# Altium footprint library KEYSTONE_4952.PcbLib: 1 footprints
Each footprint in its own frame and in the unit in brackets; x right, y up, seen from the top. Pads: shape width x height; smd on the part's side, far side on the other; paste and mask are expansions set on the pad; w line width, h text height; cw(c..) or ccw(c..) is an arc to the next point about the centre after c.
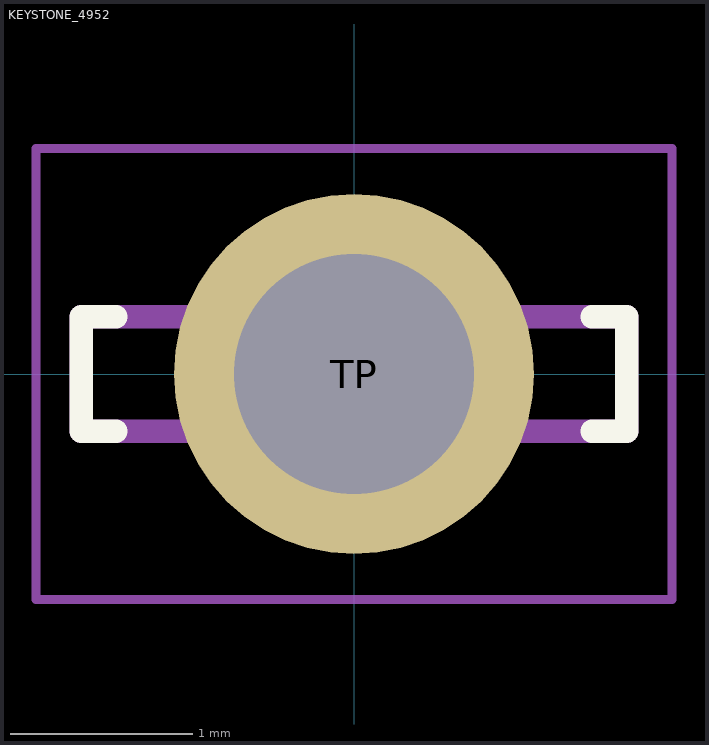
[diagram p0: the footprint, top view; thin cyan lines are the x and y axes]

## KEYSTONE_4952 [mm]
height 6.3
pads (1):
  round 1.98 hole 1.32: TP(0,0)
Top Overlay:
  lines w0.127: -1.31,-0.315 -1.5,-0.315 -1.5,0.315 -1.31,0.315 ; 1.31,-0.315 1.5,-0.315 1.5,0.315 1.31,0.315
Assembly Top:
  lines w0.127: -1.5,-0.315 -1.5,0.315 1.5,0.315 1.5,-0.315 -1.5,-0.315
Courtyard Top:
  lines w0.05: -1.75,-1.24 1.75,-1.24 1.75,1.24 -1.75,1.24 -1.75,-1.24
3D body "4952.STEP": height 6.3, standoff -4.99, extent -0.381,-1.499 0.254,1.499